# Altium footprint library PcbLib1.PcbLib: 1 footprints
Each footprint in its own frame and in the unit in brackets; x right, y up, seen from the top. Pads: shape width x height; smd on the part's side, far side on the other; paste and mask are expansions set on the pad; w line width, h text height; cw(c..) or ccw(c..) is an arc to the next point about the centre after c.
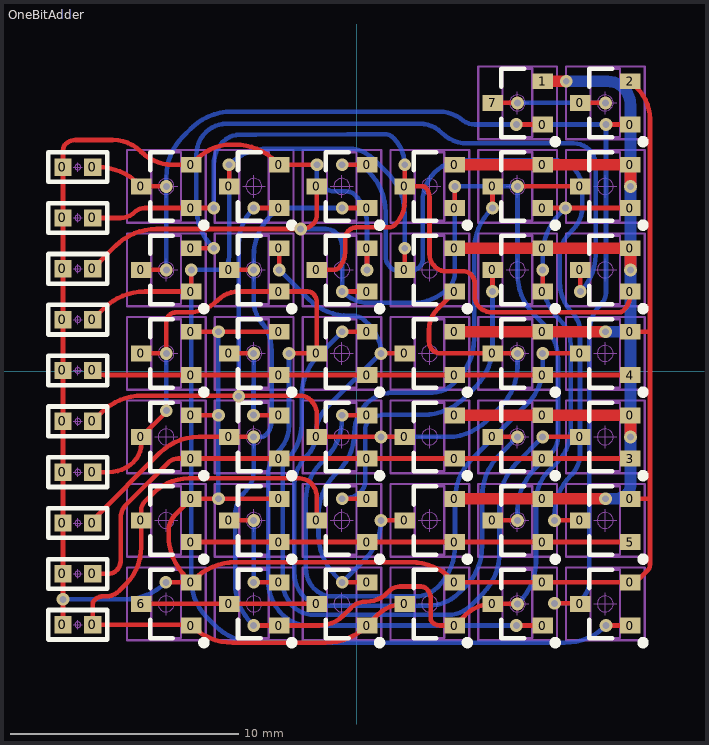
[diagram p0: the footprint, top view; thin cyan lines are the x and y axes]

## OneBitAdder [mm]
pads (134):
  rect 0.762x0.762 smd: 0(-12.893,2.275) 0(-12.893,4.507) 0(-12.893,-11.121) 0(-12.893,-8.888) 0(-12.893,-6.656) 0(-12.893,-4.423) 0(-12.893,-2.191) 0(-12.893,0.042) 0(-12.893,6.74) 0(-12.893,8.972) 0(-11.593,4.507) 0(-11.593,2.275) 0(-11.593,-11.121) 0(-11.593,-8.888) 0(-11.593,-6.656) 0(-11.593,-4.423) 0(-11.593,-2.191) 0(-11.593,0.042) 0(-11.593,6.74) 0(-11.593,8.972)
  rect 0.9x0.7 smd: 0(-9.456,-6.54) 0(-9.456,-2.874) 0(-9.456,0.792) 0(-9.456,4.458) 0(-9.456,8.124) 0(-7.256,-7.49) 0(-7.256,-5.59) 0(-7.256,-3.824) 0(-7.256,-1.924) 0(-7.256,-0.158) 0(-7.256,1.742) 0(-7.256,-11.156) 0(-7.256,-9.256) 0(-7.256,3.508) 0(-7.256,5.408) 0(-7.256,7.174) 0(-7.256,9.074) 0(-5.601,-6.54) 0(-5.601,0.792) 0(-5.601,8.124) 0(-5.601,-10.206) 0(-5.601,-2.874) 0(-5.601,4.458) 0(-3.401,-7.49) 0(-3.401,-5.59) 0(-3.401,-0.158) 0(-3.401,1.742) 0(-3.401,7.174) 0(-3.401,9.074) 0(-3.401,-11.156) 0(-3.401,-9.256) 0(-3.401,-3.824) 0(-3.401,-1.924) 0(-3.401,3.508) 0(-3.401,5.408) 0(-1.745,-6.54) 0(-1.745,0.792) 0(-1.745,8.124) 0(-1.745,-10.206) 0(-1.745,-2.874) 0(-1.745,4.458) 0(0.455,-7.49) 0(0.455,-5.59) 0(0.455,-0.158) 0(0.455,1.742) 0(0.455,7.174) 0(0.455,9.074) 0(0.455,-11.156) 0(0.455,-9.256) 0(0.455,-3.824) 0(0.455,-1.924) 0(0.455,3.508) 0(0.455,5.408) 0(2.111,0.792) 0(2.111,8.124) 0(2.111,-10.206) 0(2.111,-6.54) 0(2.111,-2.874) 0(2.111,4.458) 0(4.311,-0.158) 0(4.311,1.742) 0(4.311,7.174) 0(4.311,9.074) 0(4.311,-11.156) 0(4.311,-9.256) 0(4.311,-7.49) 0(4.311,-5.59) 0(4.311,-3.824) 0(4.311,-1.924) 0(4.311,3.508) 0(4.311,5.408) 0(5.967,-2.874) 0(5.967,4.458) 0(5.967,-10.206) 0(5.967,-6.54) 0(5.967,0.792) 0(5.967,8.124) 0(8.167,-3.824) 0(8.167,-1.924) 0(8.167,3.508) 0(8.167,5.408) 0(8.167,-11.156) 0(8.167,-9.256) 0(8.167,-7.49) 0(8.167,-5.59) 0(8.167,-0.158) 0(8.167,1.742) 0(8.167,7.174) 0(8.167,9.074) 0(8.167,10.84) 0(9.822,-10.206) 0(9.822,-6.54) 0(9.822,-2.874) 0(9.822,0.792) 0(9.822,4.458) 0(9.822,8.124) 0(9.822,11.79) 0(12.022,-11.156) 0(12.022,-9.256) 0(12.022,-5.59) 0(12.022,-1.924) 0(12.022,1.742) 0(12.022,3.508) 0(12.022,5.408) 0(12.022,7.174) 0(12.022,9.074) 0(12.022,10.84) 1(8.167,12.74) 2(12.022,12.74) 3(12.022,-3.824) 4(12.022,-0.158) 5(12.022,-7.49) 6(-9.456,-10.206) 7(5.967,11.79)
via -0.635,7.174 diameter 0.559 hole 0.305
via 0.455,4.458 diameter 0.559 hole 0.305
via -1.745,9.074 diameter 0.559 hole 0.305
via -2.457,6.253 diameter 0.559 hole 0.305
via -4.521,4.458 diameter 0.559 hole 0.305
via -3.401,4.458 diameter 0.559 hole 0.305
via 2.111,9.074 diameter 0.559 hole 0.305
via -0.635,9.074 diameter 0.559 hole 0.305
via 2.111,5.408 diameter 0.559 hole 0.305
via -12.893,-10.005 diameter 0.559 hole 0.305
via -8.377,-9.256 diameter 0.559 hole 0.305
via -6.07,-5.59 diameter 0.559 hole 0.305
via -6.07,1.742 diameter 0.559 hole 0.305
via -6.07,-1.926 diameter 0.559 hole 0.305
via 7.011,-11.156 diameter 0.559 hole 0.305
via -6.274,5.408 diameter 0.559 hole 0.305
via -0.635,3.508 diameter 0.559 hole 0.305
via -0.635,1.742 diameter 0.559 hole 0.305
via 8.167,-2.874 diameter 0.559 hole 0.305
via 8.167,0.792 diameter 0.559 hole 0.305
via -0.635,-9.256 diameter 0.559 hole 0.305
via -0.635,-5.59 diameter 0.559 hole 0.305
via -4.521,-6.54 diameter 0.559 hole 0.305
via 1.067,-2.874 diameter 0.559 hole 0.305
via 9.17,7.174 diameter 0.559 hole 0.305
via 9.822,3.508 diameter 0.559 hole 0.305
via 4.311,8.124 diameter 0.559 hole 0.305
via 10.922,-5.59 diameter 0.559 hole 0.305
via 10.922,1.742 diameter 0.559 hole 0.305
via 8.687,-10.181 diameter 0.559 hole 0.305
via 1.067,0.792 diameter 0.559 hole 0.305
via -0.635,-1.924 diameter 0.559 hole 0.305
via 7.061,-6.54 diameter 0.559 hole 0.305
via -8.356,8.124 diameter 0.559 hole 0.305
via -6.274,7.174 diameter 0.559 hole 0.305
via 7.061,8.124 diameter 0.559 hole 0.305
via 5.967,7.174 diameter 0.559 hole 0.305
via -2.972,0.792 diameter 0.559 hole 0.305
via -4.521,-9.256 diameter 0.559 hole 0.305
via 8.687,-6.54 diameter 0.559 hole 0.305
via -4.521,7.174 diameter 0.559 hole 0.305
via 9.203,12.74 diameter 0.559 hole 0.305
via 12.022,-2.874 diameter 0.559 hole 0.305
via 12.022,4.458 diameter 0.559 hole 0.305
via 12.022,8.124 diameter 0.559 hole 0.305
via -8.356,-1.723 diameter 0.559 hole 0.305
via -4.521,-11.156 diameter 0.559 hole 0.305
via -5.601,9.074 diameter 0.559 hole 0.305
via 10.948,-11.156 diameter 0.559 hole 0.305
via -7.256,4.458 diameter 0.559 hole 0.305
via 1.067,-6.54 diameter 0.559 hole 0.305
via -4.521,-2.874 diameter 0.559 hole 0.305
via 5.967,3.508 diameter 0.559 hole 0.305
via -5.181,-1.088 diameter 0.559 hole 0.305
via -4.53,-1.92 diameter 0.559 hole 0.305
via 7.061,0.792 diameter 0.559 hole 0.305
via -4.521,0.792 diameter 0.559 hole 0.305
via 10.922,11.79 diameter 0.559 hole 0.305
via 7.061,11.79 diameter 0.559 hole 0.305
via 7.061,-10.206 diameter 0.559 hole 0.305
via 7.061,-2.874 diameter 0.559 hole 0.305
via 7.011,10.84 diameter 0.559 hole 0.305
via 8.167,4.458 diameter 0.559 hole 0.305
via 10.948,10.84 diameter 0.559 hole 0.305
via -8.356,0.792 diameter 0.559 hole 0.305
via -8.356,4.458 diameter 0.559 hole 0.305
Top Layer:
  lines w0.203: -12.893,-11.121 -12.893,-10.005 -12.893,-8.888 -12.893,-6.656 -12.893,-4.423 -12.893,-2.191 -12.893,0.042 -12.893,6.74 -12.893,8.972 -12.893,9.705 cw(c-12.494,9.705) -12.776,9.987 cw(c-12.347,9.557) -12.347,10.164 -10.7,10.164 cw(c-10.7,8.43) -9.474,9.656 ccw(c-8.068,11.063) -8.068,9.074 -7.256,9.074 -6.975,9.355 cw(c-5.512,7.891) -5.512,9.961 -5.34,9.961 cw(c-5.34,7.421) -3.544,9.217 -3.401,9.074 -1.745,9.074 ; -11.593,-8.888 -10.915,-8.888 ccw(c-10.915,-8.359) -10.541,-8.733 ccw(c-10.97,-8.304) -10.363,-8.304 -10.363,-6.447 cw(c-9.504,-6.447) -10.112,-5.84 -8.28,-4.009 ; -11.593,-6.656 cw(c-11.298,-6.656) -11.507,-6.448 ; -11.593,-4.423 -10.902,-4.423 ccw(c-10.902,-2.835) -9.779,-3.958 ccw(c-10.557,-3.18) -9.456,-3.18 -9.456,-2.874 -8.393,-1.811 ; -11.593,-2.191 -11.208,-1.806 cw(c-9.412,-3.602) -9.412,-1.062 -2.497,-1.062 cw(c-2.497,-1.756) -2.006,-1.266 cw(c-2.638,-1.897) -1.745,-1.897 -1.745,-2.874 1.067,-2.874 2.111,-2.874 ; -11.593,0.042 ccw(c-11.109,0.525) -11.109,-0.158 -7.256,-0.158 -3.401,-0.158 0.455,-0.158 4.311,-0.158 8.167,-0.158 12.022,-0.158 ; -11.593,2.275 -11.103,2.764 cw(c-9.307,0.968) -9.307,3.508 -7.256,3.508 -7.256,4.458 ; -11.593,4.507 -10.591,5.509 cw(c-8.795,3.713) -8.795,6.253 -2.457,6.253 ccw(c-2.457,7.033) -1.905,6.481 ccw(c-2.291,6.867) -1.745,6.867 -1.745,8.124 ; -11.593,6.74 -10.356,6.74 ccw(c-10.356,7.592) -9.753,6.989 cw(c-9.308,6.544) -9.308,7.174 -7.256,7.174 -6.274,7.174 ; -11.593,8.972 -11.357,8.972 cw(c-11.357,6.432) -9.561,8.228 -9.456,8.124 -8.356,8.124 ; -9.456,-10.206 -5.601,-10.206 -1.745,-10.206 ; -9.456,0.792 -8.356,0.792 -8.356,2.162 cw(c-7.923,2.162) -8.229,2.468 cw(c-7.923,2.162) -7.923,2.595 -7.383,2.595 ccw(c-7.383,4.416) -6.096,3.129 cw(c-5.18,2.213) -5.18,3.508 -3.401,3.508 -2.146,3.508 cw(c-2.146,3.167) -1.905,3.408 cw(c-2.291,3.022) -1.745,3.022 -1.745,0.792 -2.972,0.792 ; -9.456,4.458 -8.356,4.458 ; -8.377,-9.256 -7.256,-9.256 ; -8.356,-1.723 cw(c-8.481,-1.723) -8.393,-1.811 ; -7.256,-7.49 -3.401,-7.49 0.455,-7.49 8.167,-7.49 12.022,-7.49 ; -7.256,-1.924 -7.255,-1.926 -6.07,-1.926 ; -7.256,1.742 -6.07,1.742 -3.401,1.742 ; -7.256,5.408 -6.274,5.408 ; -5.601,-6.54 -4.521,-6.54 ; -5.601,0.792 -4.521,0.792 ; -5.601,4.458 -4.521,4.458 ; -5.601,8.124 -5.601,9.074 ; -4.521,-11.156 -3.401,-11.156 -1.651,-11.156 ccw(c-1.651,-9.647) -0.584,-10.714 -0.244,-10.374 cw(c0.407,-11.025) 0.407,-10.105 0.427,-10.105 ccw(c0.427,-8.804) 1.346,-9.724 ; -4.521,-9.256 -3.401,-9.256 ; -4.521,-2.874 -5.601,-2.874 -6.939,-2.874 ccw(c-6.939,-5.274) -8.636,-3.577 -11.506,-6.448 ; -4.521,7.174 -3.401,7.174 ; -3.401,-5.59 -6.07,-5.59 -7.256,-5.59 -7.96,-6.294 ccw(c-7.247,-7.006) -8.255,-7.006 -8.255,-7.206 ccw(c-5.715,-7.206) -7.511,-9.002 -7.256,-9.256 ; -3.401,-1.924 -4.488,-1.924 cw(c-4.488,-1.721) -4.53,-1.92 ; -3.401,4.458 -3.401,5.408 ; -1.745,-6.54 -1.745,-5.529 ccw(c-2.638,-5.529) -2.006,-4.898 ccw(c-2.497,-5.388) -2.497,-4.695 -7.366,-4.695 ccw(c-7.366,-6.902) -8.927,-5.341 -9.296,-5.711 ccw(c-8.909,-6.097) -9.456,-6.097 -9.456,-6.54 -9.456,-7.706 cw(c-11.771,-7.706) -10.134,-9.343 -10.416,-9.625 cw(c-11.023,-9.018) -11.023,-9.876 -11.138,-9.876 ccw(c-11.138,-10.397) -11.506,-10.029 ccw(c-11.297,-10.238) -11.593,-10.238 -11.593,-11.121 -7.342,-11.121 cw(c-7.342,-11.242) -7.257,-11.156 ; -1.745,4.458 -1.012,4.458 ccw(c-1.012,4.776) -0.787,4.551 ccw(c-1.462,5.225) -0.508,5.225 -0.508,5.809 cw(c0.013,5.809) -0.355,6.177 cw(c0.013,5.809) 0.013,6.329 1.431,6.329 ccw(c1.431,6.676) 1.677,6.431 ccw(c0.628,7.479) 2.111,7.479 2.111,8.124 ; -0.635,-9.256 0.455,-9.256 ; -0.635,-5.59 0.455,-5.59 ; -0.635,-1.924 0.455,-1.924 ; -0.635,1.742 0.455,1.742 ; -0.635,3.508 0.455,3.508 ; -0.635,7.174 0.455,7.174 ; -0.635,9.074 0.455,9.074 ; 0.455,4.458 0.455,5.408 ; 1.067,-6.54 2.111,-6.54 ; 1.067,0.792 2.111,0.792 ; 2.111,-10.206 ccw(c2.111,-11.91) 0.906,-10.705 0.455,-11.156 0.447,-11.164 cw(c-1.349,-9.368) -1.349,-11.908 -5.452,-11.908 cw(c-5.452,-9.368) -7.249,-11.164 -7.256,-11.156 ; 2.111,4.458 2.111,5.408 ; 2.111,9.074 2.111,8.124 ; 4.311,3.508 3.556,2.753 ccw(c4.477,1.833) 3.175,1.833 3.175,1.312 ccw(c3.696,1.312) 3.328,0.944 ccw(c3.696,1.312) 3.696,0.792 5.967,0.792 7.061,0.792 ; 4.311,7.174 4.311,8.124 ; 5.967,-6.54 7.061,-6.54 ; 5.967,-2.874 7.061,-2.874 ; 5.967,3.508 5.967,4.458 ; 5.967,7.174 5.967,8.124 ; 5.967,11.79 7.061,11.79 ; 7.011,-11.156 8.167,-11.156 ; 7.011,10.84 8.167,10.84 ; 7.061,-10.206 5.967,-10.206 ccw(c5.967,-11.91) 4.762,-10.705 4.311,-11.156 3.659,-11.156 cw(c3.659,-10.688) 3.328,-11.019 cw(c3.512,-10.835) 3.251,-10.835 3.251,-9.975 ccw(c2.644,-9.975) 3.074,-9.546 ccw(c2.828,-9.791) 2.828,-9.444 1.905,-9.444 ccw(c1.905,-10.119) 1.428,-9.642 1.346,-9.724 ; 7.061,8.124 9.822,8.124 ; 8.167,-2.874 9.822,-2.874 ; 8.167,0.792 9.822,0.792 ; 8.167,3.508 8.167,4.458 ; 8.167,7.174 9.17,7.174 12.022,7.174 ; 8.687,-10.181 9.761,-10.181 cw(c9.761,-10.268) 9.822,-10.206 ; 8.687,-6.54 9.822,-6.54 ; 9.822,3.508 9.822,4.458 ; 9.822,11.79 10.922,11.79 ; 10.948,-11.156 12.022,-11.156 ; 10.948,10.84 12.022,10.84 ; 12.022,-5.59 12.871,-5.59 12.878,-5.584 ; 12.022,-3.824 4.311,-3.824 0.455,-3.824 -3.401,-3.824 -7.256,-3.824 ; 12.022,1.742 12.841,1.742 ccw(c12.841,1.794) 12.878,1.757 ; 12.022,3.508 12.022,3.426 cw(c10.955,3.426) 11.71,2.671 cw(c11.526,2.855) 11.526,2.595 5.937,2.595 cw(c5.937,3.376) 5.385,2.824 cw(c5.876,3.314) 5.182,3.314 5.182,3.878 ccw(c4.662,3.878) 5.029,4.246 ccw(c4.662,3.878) 4.662,4.399 3.92,4.399 cw(c3.92,5.092) 3.429,4.602 cw(c3.981,5.154) 3.201,5.154 3.201,7.652 ccw(c2.594,7.652) 3.023,8.082 ccw(c2.921,7.979) 2.921,8.124 2.111,8.124 ; 12.022,12.74 12.309,12.454 cw(c10.934,11.079) 12.878,11.079 12.878,1.757 ; -11.506,-6.448 ccw(c-11.298,-6.656) -11.507,-6.448 ; -11.507,-6.448 -11.506,-6.448 ; -8.393,-1.811 ccw(c-8.481,-1.723) -8.393,-1.811 ; -8.393,-1.811 -8.393,-1.811 ; -8.28,-4.009 cw(c-7.835,-4.454) -8.28,-4.009 ; -8.28,-4.009 -8.28,-4.009 ; -8.28,-4.009 cw(c-7.835,-4.454) -7.835,-3.824 -7.256,-3.824 ; -7.256,-11.156 ccw(c-7.342,-11.242) -7.257,-11.156 ; -7.256,-11.156 -7.257,-11.156 ; -7.256,-9.256 -7.122,-9.122 cw(c-5.325,-10.918) -5.325,-8.378 2.38,-8.378 cw(c2.38,-10.918) 4.176,-9.122 4.311,-9.256 8.167,-9.256 12.022,-9.256 ccw(c12.022,-8.699) 12.417,-9.093 12.776,-8.733 ccw(c12.531,-8.488) 12.878,-8.488 12.878,-5.584 ; -7.256,-3.824 -7.256,-3.824 ; -4.53,-1.92 -4.53,-1.92 ; 1.346,-9.724 ccw(c0.427,-8.804) 1.346,-9.724 ; 1.346,-9.724 1.346,-9.724 ; 12.878,-5.584 12.878,1.757
  lines w0.508: 4.311,-1.924 12.022,-1.924 12.022,-2.874 ; 4.311,1.742 8.167,1.742 10.922,1.742 ; 4.311,5.408 12.022,5.408 12.022,4.458 ; 4.311,9.074 8.167,9.074 12.022,9.074 12.022,8.124 ; 8.167,12.74 9.203,12.74 ; 10.922,-5.59 8.167,-5.59 4.311,-5.59 ; 4.311,-5.59 4.311,-5.59
Bottom Layer:
  lines w0.203: -12.893,-10.005 -10.177,-10.005 ccw(c-10.177,-7.465) -8.381,-9.261 -8.377,-9.256 ; -8.356,-1.723 -8.356,0.792 ; -8.356,4.458 -8.356,8.124 -8.356,8.528 cw(c-5.816,8.528) -7.612,10.324 -7.272,10.665 cw(c-5.475,8.869) -7.203,10.731 cw(c-5.475,8.869) -5.475,11.409 3.61,11.409 cw(c3.61,9.761) 4.571,11.1 ccw(c5.199,11.728) 5.199,10.84 7.011,10.84 10.948,10.84 10.948,3.467 cw(c10.254,3.467) 10.744,2.976 ccw(c12.032,1.688) 10.211,1.688 10.211,-9.253 cw(c9.257,-9.253) 9.932,-9.927 cw(c9.318,-9.314) 9.318,-10.181 8.687,-10.181 ; -6.274,5.408 -6.292,5.426 cw(c-4.496,7.222) -7.036,7.222 -7.036,9.513 cw(c-5.648,9.513) -6.629,10.495 cw(c-5.709,9.575) -5.709,10.876 2.778,10.876 cw(c2.778,9.533) 3.728,10.482 ccw(c4.863,11.618) 4.863,10.012 9.537,10.012 cw(c9.537,9.058) 10.211,9.733 cw(c9.537,9.058) 10.49,9.058 10.49,5.121 cw(c8.209,5.121) 9.822,3.508 ; -6.274,7.174 -6.274,9.107 cw(c-4.886,9.107) -6.131,9.72 cw(c-4.886,9.107) -5.867,10.088 cw(c-5.131,9.352) -5.131,10.393 -4.409,10.393 ccw(c-4.409,10.596) -4.407,10.393 -0.412,10.417 cw(c-0.407,9.808) -0.399,10.417 -0.178,10.415 1.242,10.415 cw(c1.242,9.907) 1.6,10.266 1.629,10.238 cw(c0.465,9.074) 2.111,9.074 ; -6.07,-5.59 -6.07,-1.926 -6.07,1.742 ; -5.181,-1.088 -5.181,5.58 cw(c-2.927,5.58) -4.521,7.174 ; -4.53,-1.92 -4.521,0.792 ; -4.521,-11.156 -4.59,-11.088 cw(c-2.794,-9.292) -5.334,-9.292 -5.334,-6.357 cw(c-3.773,-6.357) -4.877,-5.253 ccw(c-5.735,-4.395) -4.521,-4.395 -4.521,-2.874 -4.192,-2.874 ccw(c-4.192,-2.585) -3.988,-2.79 ccw(c-4.601,-2.176) -3.734,-2.176 -3.734,0.895 ccw(c-5.815,0.895) -4.03,1.965 ; -4.521,-9.256 -4.521,-6.54 ; -3.401,4.458 -2.13,3.187 ccw(c-0.333,4.983) -1.485,2.719 ccw(c-0.333,4.983) -0.333,2.443 -0.171,2.443 cw(c-0.171,1.662) 0.381,2.214 0.546,2.049 cw(c-0.711,0.792) 1.067,0.792 -1.282,-1.558 ccw(c-0.025,-2.815) -1.31,-1.586 ccw(c-0.025,-2.815) -1.803,-2.815 cw(c-3.03,-2.815) -2.162,-3.682 cw(c-3.03,-2.815) -2.162,-3.682 -2.204,-3.724 ccw(c-0.903,-5.025) -2.743,-5.025 -2.743,-8.823 ccw(c-1.182,-8.823) -2.286,-9.927 ccw(c-1.427,-9.069) -1.427,-10.283 3.147,-10.283 ccw(c3.147,-8.375) 4.496,-9.724 4.768,-9.452 ccw(c2.972,-7.656) 5.512,-7.656 5.512,-5.476 cw(c8.052,-5.476) 5.696,-4.526 cw(c8.052,-5.476) 6.256,-3.68 7.061,-2.874 ; -2.972,0.792 -2.972,-2.361 cw(c-4.619,-2.361) -3.454,-3.526 ; -2.457,6.253 -1.354,6.253 cw(c-1.354,5.559) -0.863,6.05 cw(c-1.415,5.498) -0.635,5.498 -0.635,3.508 ccw(c0.568,4.711) 0.568,3.01 2.635,3.01 ccw(c2.444,5.256) 4.039,3.662 ccw(c3.382,4.319) 4.311,4.319 4.311,8.124 7.061,8.124 7.061,4.282 ccw(c9.601,4.282) 7.805,2.486 8.17,2.122 cw(c6.554,0.505) 8.839,0.505 8.839,-2.904 cw(c7.949,-2.904) 8.579,-3.533 7.805,-4.306 ccw(c9.601,-6.102) 7.061,-6.102 7.061,-6.54 ; -1.745,9.074 -1.745,8.533 ccw(c-1.25,8.533) -1.6,8.183 -1.59,8.173 ccw(c-0.94,8.824) -0.94,7.904 -0.444,7.904 cw(c-0.444,7.383) -0.076,7.751 cw(c-1.358,6.469) 0.455,6.469 0.455,4.458 ; -0.635,-5.59 -0.61,-5.59 ccw(c-0.61,-4.44) 0.203,-5.253 ccw(c-0.202,-4.848) 0.371,-4.848 0.371,-2.536 cw(c0.839,-2.536) 0.508,-2.205 cw(c1.244,-2.941) 1.244,-1.901 2.936,-1.901 ccw(c2.936,0.639) 4.732,-1.157 5.223,-0.666 ccw(c3.427,1.13) 5.967,1.13 5.967,3.508 ; -0.635,-1.924 -0.635,-2.042 cw(c-3.175,-2.042) -1.379,-3.838 -1.57,-4.03 ccw(c0.034,-5.634) -2.235,-5.634 -2.235,-8.626 ccw(c-0.934,-8.626) -1.854,-9.546 ccw(c-1.057,-8.749) -1.057,-9.876 2.575,-9.876 ccw(c2.575,-8.489) 3.556,-9.47 3.574,-9.452 ccw(c1.778,-7.656) 4.318,-7.656 4.318,-5.645 cw(c6.858,-5.645) 5.062,-3.849 7.519,-1.393 ccw(c5.955,0.171) 8.167,0.171 8.167,0.792 ; -0.635,1.742 -1.669,0.708 ccw(c0.127,-1.088) -2.235,-0.155 ccw(c0.127,-1.088) -2.413,-1.088 -2.413,-2.316 cw(c-4.6,-2.316) -3.053,-3.862 ccw(c-2.576,-4.339) -3.251,-4.339 -3.251,-9.204 ccw(c-1.69,-9.204) -2.794,-10.308 ccw(c-1.874,-9.388) -1.874,-10.689 4.023,-10.689 ccw(c4.023,-9.301) 5.004,-10.283 5.53,-9.757 ccw(c3.734,-7.961) 6.274,-7.961 6.274,-5.819 cw(c8.814,-5.819) 7.018,-4.023 8.167,-2.874 ; -0.635,7.174 -2.981,7.174 ccw(c-2.981,6.049) -3.777,6.844 ccw(c-1.981,5.048) -4.521,5.048 -4.521,4.458 -4.521,3.151 ccw(c-2.844,3.151) -4.305,2.327 ; -0.635,9.074 -0.063,9.074 cw(c-0.063,8.374) 0.432,8.869 0.526,8.775 cw(c-1.27,6.979) 1.27,6.979 1.27,5.067 ccw(c1.964,5.067) 1.473,4.576 ccw(c1.903,5.006) 1.903,4.399 2.278,4.399 ccw(c2.278,5.092) 2.769,4.602 ccw(c2.462,4.908) 2.896,4.908 2.896,7.454 cw(c4.717,7.454) 3.429,8.742 cw(c4.717,7.454) 4.717,9.275 8.667,9.275 cw(c8.667,8.061) 9.525,8.92 cw(c8.605,8) 9.906,8 9.906,7.218 cw(c8.496,7.218) 9.493,6.221 9.322,6.05 ccw(c10.303,5.068) 8.916,5.068 8.916,3.929 ccw(c10.847,3.929) 9.481,2.563 ccw(c10.847,3.929) 9.481,2.563 cw(c8.701,1.782) 9.805,1.782 9.805,-3.633 cw(c8.529,-3.633) 9.431,-4.535 ccw(c11.227,-6.331) 8.687,-6.331 8.687,-6.54 ; 1.067,-6.54 cw(c-1.382,-6.54) 0.35,-8.272 -0.635,-9.256 -0.932,-8.959 cw(c0.864,-7.163) -1.676,-7.163 -1.676,-6.307 cw(c0.864,-6.307) -0.932,-4.511 -0.79,-4.369 ccw(c-2.454,-2.706) -0.101,-2.706 cw(c1.72,-2.706) 0.432,-1.418 cw(c1.597,-2.583) 1.195,-0.985 cw(c1.597,-2.583) 1.597,-0.935 3.333,-0.935 ccw(c3.333,0.279) 4.191,-0.58 4.412,-0.359 ccw(c2.616,1.437) 5.156,1.437 5.156,5.312 cw(c7.696,5.312) 5.9,7.108 5.967,7.174 ; 1.067,-2.874 4.014,-2.874 ccw(c4.014,-0.504) 5.69,-2.18 6.317,-1.552 ccw(c4.521,0.244) 7.061,0.244 7.061,0.792 ; 2.111,5.408 2.111,6.9 ccw(c-0.429,6.9) 1.488,8.567 ccw(c-0.429,6.9) 1.367,8.696 0.729,9.334 ccw(c-0.355,8.25) -0.355,9.783 -3.888,9.783 ccw(c-3.888,7.361) -5.601,9.074 -5.601,5.025 cw(c-6.164,5.025) -5.766,4.627 cw(c-6.174,5.036) -6.174,4.458 -7.256,4.458 -7.256,-9.154 ccw(c-4.942,-9.154) -6.578,-10.791 -6.205,-11.164 ccw(c-4.409,-9.368) -4.409,-11.908 9.144,-11.908 ccw(c9.144,-9.368) 10.94,-11.164 10.948,-11.156 ; 7.011,-11.156 -2.123,-11.156 cw(c-2.123,-9.561) -3.251,-10.689 cw(c-1.718,-9.156) -3.252,-10.688 cw(c-1.718,-9.156) -3.886,-9.156 -3.886,-4.569 cw(c-2.412,-4.569) -3.455,-3.527 ; 7.061,-10.206 7.13,-10.138 ccw(c5.334,-8.342) 7.874,-8.342 7.874,-5.696 cw(c9.726,-5.696) 8.036,-4.939 cw(c9.726,-5.696) 8.064,-4.878 cw(c9.726,-5.696) 8.417,-4.387 8.783,-4.02 ccw(c7.299,-2.536) 9.398,-2.536 9.398,1.173 ccw(c7.927,1.173) 8.967,2.213 8.89,2.29 cw(c10.637,4.038) 8.167,4.038 8.167,4.458 8.167,5.119 cw(c10.707,5.119) 8.91,6.915 9.17,7.174 ; 7.061,11.79 10.922,11.79 ; -4.305,2.327 ccw(c-2.844,3.151) -4.03,1.965 ; -4.305,2.327 cw(c-5.815,0.895) -4.03,1.965 ; -3.454,-3.526 ccw(c-2.412,-4.569) -3.455,-3.527
  lines w0.508: 9.203,12.74 11.01,12.74 cw(c11.01,11.751) 11.71,12.45 cw(c10.955,11.696) 12.022,11.696 12.022,8.124 12.022,4.458 12.022,1.757 ; 10.922,-5.59 11.319,-5.59 ccw(c11.319,-4.787) 11.887,-5.355 ccw(c11.562,-5.03) 12.022,-5.03 12.022,-2.874 12.022,1.757 ; 10.922,1.742 11.986,1.742 ccw(c11.986,1.794) 12.022,1.757
Top Overlay:
  drawing of 230 lines, arcs and shapes, not listed
Mechanical 13:
  drawing of 152 lines, arcs and shapes, not listed
Mechanical 15:
  drawing of 296 lines, arcs and shapes, not listed
3D body "R 0603.STEP": height 0.4, standoff 0, extent -13.043,-11.521 -11.442,-10.721
3D body "R 0603.STEP": height 0.4, standoff 0, extent -13.043,-2.59 -11.442,-1.79
3D body "R 0603.STEP": height 0.4, standoff 0, extent -13.043,-4.823 -11.442,-4.023
3D body "R 0603.STEP": height 0.4, standoff 0, extent -13.043,-0.358 -11.442,0.442
3D body "R 0603.STEP": height 0.4, standoff 0, extent -13.043,-9.288 -11.442,-8.488
3D body "R 0603.STEP": height 0.4, standoff 0, extent -13.043,8.572 -11.442,9.372
3D body "R 0603.STEP": height 0.4, standoff 0, extent -13.043,1.875 -11.442,2.675
3D body "R 0603.STEP": height 0.4, standoff 0, extent -13.043,6.34 -11.442,7.14
3D body "R 0603.STEP": height 0.4, standoff 0, extent -13.043,4.107 -11.442,4.907
3D body "R 0603.STEP": height 0.4, standoff 0, extent -13.043,-7.056 -11.442,-6.256
3D body "SOT23-3.STEP": height 1.05, standoff 0, extent -1.854,-11.706 0.546,-8.706
3D body "SOT23-3.STEP": height 1.05, standoff 0, extent -1.854,-8.04 0.546,-5.04
3D body "SOT23-3.STEP": height 1.05, standoff 0, extent 2.002,2.958 4.402,5.958
3D body "SOT23-3.STEP": height 1.05, standoff 0, extent 2.002,-4.374 4.402,-1.374
3D body "SOT23-3.STEP": height 1.05, standoff 0, extent 5.858,-0.708 8.258,2.292
3D body "SOT23-3.STEP": height 1.05, standoff 0, extent 2.002,-8.04 4.402,-5.04
3D body "SOT23-3.STEP": height 1.05, standoff 0, extent 5.858,6.624 8.258,9.624
3D body "SOT23-3.STEP": height 1.05, standoff 0, extent 5.858,2.958 8.258,5.958
3D body "SOT23-3.STEP": height 1.05, standoff 0, extent 5.858,10.29 8.258,13.29
3D body "SOT23-3.STEP": height 1.05, standoff 0, extent -9.565,2.958 -7.165,5.958
3D body "SOT23-3.STEP": height 1.05, standoff 0, extent -5.71,2.958 -3.31,5.958
3D body "SOT23-3.STEP": height 1.05, standoff 0, extent -1.854,-0.708 0.546,2.292
3D body "SOT23-3.STEP": height 1.05, standoff 0, extent 9.713,2.958 12.113,5.958
3D body "SOT23-3.STEP": height 1.05, standoff 0, extent 2.002,6.624 4.402,9.624
3D body "SOT23-3.STEP": height 1.05, standoff 0, extent 9.713,6.624 12.113,9.624
3D body "SOT23-3.STEP": height 1.05, standoff 0, extent 5.858,-8.04 8.258,-5.04
3D body "SOT23-3.STEP": height 1.05, standoff 0, extent 2.002,-0.708 4.402,2.292
3D body "SOT23-3.STEP": height 1.05, standoff 0, extent 5.858,-4.374 8.258,-1.374
3D body "SOT23-3.STEP": height 1.05, standoff 0, extent 9.713,-4.374 12.113,-1.374
3D body "SOT23-3.STEP": height 1.05, standoff 0, extent -9.565,-11.706 -7.165,-8.706
3D body "SOT23-3.STEP": height 1.05, standoff 0, extent -5.71,-8.04 -3.31,-5.04
3D body "SOT23-3.STEP": height 1.05, standoff 0, extent -9.565,-8.04 -7.165,-5.04
3D body "SOT23-3.STEP": height 1.05, standoff 0, extent 2.002,-11.706 4.402,-8.706
3D body "SOT23-3.STEP": height 1.05, standoff 0, extent 9.713,-0.708 12.113,2.292
3D body "SOT23-3.STEP": height 1.05, standoff 0, extent -5.71,-11.706 -3.31,-8.706
3D body "SOT23-3.STEP": height 1.05, standoff 0, extent -5.71,6.624 -3.31,9.624
3D body "SOT23-3.STEP": height 1.05, standoff 0, extent -1.854,-4.374 0.546,-1.374
3D body "SOT23-3.STEP": height 1.05, standoff 0, extent 5.858,-11.706 8.258,-8.706
3D body "SOT23-3.STEP": height 1.05, standoff 0, extent -5.71,-0.708 -3.31,2.292
3D body "SOT23-3.STEP": height 1.05, standoff 0, extent -9.565,-0.708 -7.165,2.292
3D body "SOT23-3.STEP": height 1.05, standoff 0, extent -9.565,-4.374 -7.165,-1.374
3D body "SOT23-3.STEP": height 1.05, standoff 0, extent 9.713,10.29 12.113,13.29
3D body "SOT23-3.STEP": height 1.05, standoff 0, extent 9.713,-11.706 12.113,-8.706
3D body "SOT23-3.STEP": height 1.05, standoff 0, extent -9.565,6.624 -7.165,9.624
3D body "SOT23-3.STEP": height 1.05, standoff 0, extent 9.713,-8.04 12.113,-5.04
3D body "SOT23-3.STEP": height 1.05, standoff 0, extent -5.71,-4.374 -3.31,-1.374
3D body "SOT23-3.STEP": height 1.05, standoff 0, extent -1.854,2.958 0.546,5.958
3D body "SOT23-3.STEP": height 1.05, standoff 0, extent -1.854,6.624 0.546,9.624